# Altium footprint library agfa other components.PCBLIB: 27 footprints (part 1 of 2)
Each footprint in its own frame and in the unit in brackets; x right, y up, seen from the top. Pads: shape width x height; smd on the part's side, far side on the other; paste and mask are expansions set on the pad; w line width, h text height; cw(c..) or ccw(c..) is an arc to the next point about the centre after c.
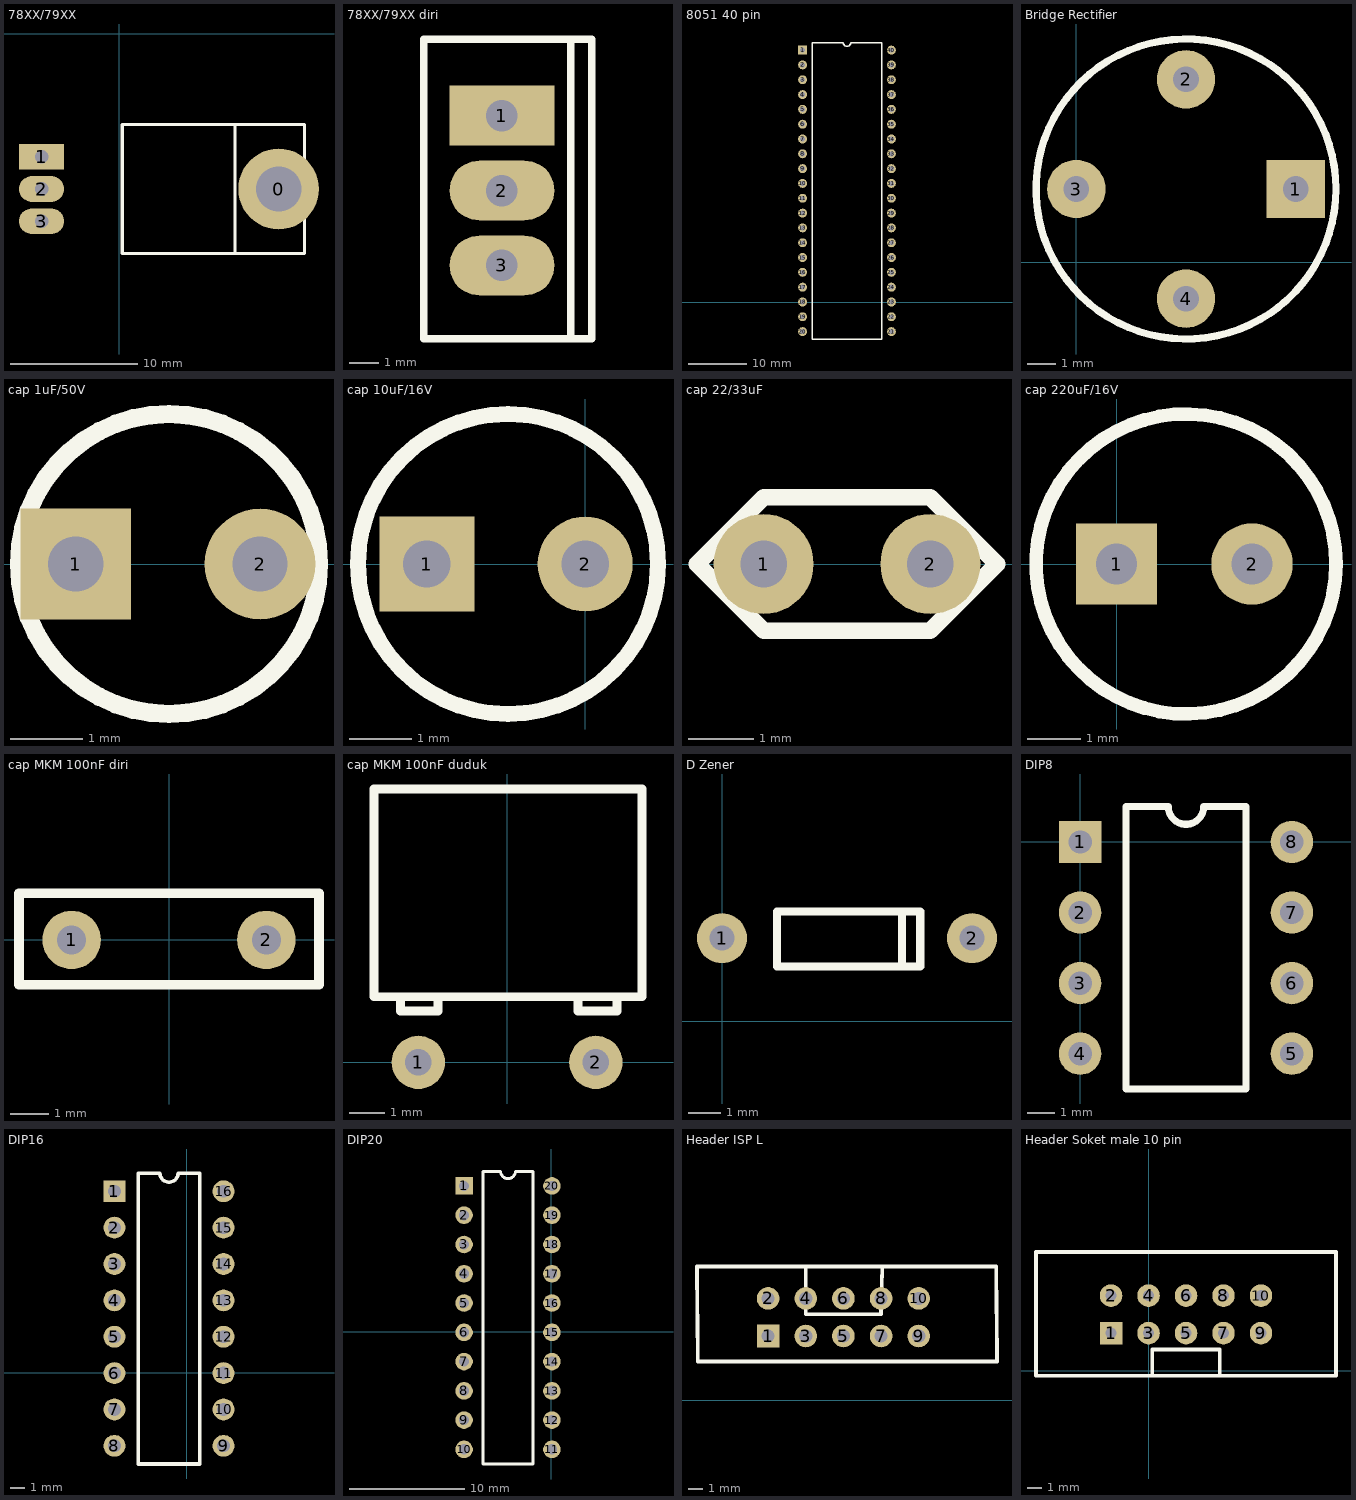
[diagram p0: the footprints below, top view; thin cyan lines are the x and y axes]

## 78XX/79XX [mil]
pads (4):
  round 250 hole 140: 0(495,-482)
  rect 140x80 hole 42: 1(-240,-382)
  oval 140x80 hole 42: 2(-240,-482) 3(-240,-582)
Top Overlay:
  lines w10: 360,-682 360,-282 ; 10,-682 10,-282 575,-282 575,-682 10,-682

## 78XX/79XX diri [mil]
pads (3):
  rect 140x80 hole 42: 1(-296,-302)
  oval 140x80 hole 42: 2(-296,-402) 3(-296,-502)
Top Overlay:
  lines w10: -204,-598 -204,-200 ; -400,-600 -400,-200 -176,-200 -176,-600 -400,-600

## 8051 40 pin [mil]
pads (40):
  rect 60x60 hole 33: 1(-1746,1702)
  round 60 hole 33: 2(-1746,1602) 3(-1746,1502) 4(-1746,1402) 5(-1746,1302) 6(-1746,1202) 7(-1746,1102) 8(-1746,1002) 9(-1746,902) 10(-1746,802) 11(-1746,702) 12(-1746,602) 13(-1746,502) 14(-1746,402) 15(-1746,302) 16(-1746,202) 17(-1746,102) 18(-1746,2) 19(-1746,-98) 20(-1746,-198) 21(-1146,-198) 22(-1146,-98) 23(-1146,2) 24(-1146,102) 25(-1146,202) 26(-1146,302) 27(-1146,402) 28(-1146,502) 29(-1146,602) 30(-1146,702) 31(-1146,802) 32(-1146,902) 33(-1146,1002) 34(-1146,1102) 35(-1146,1202) 36(-1146,1302) 37(-1146,1402) 38(-1146,1502) 39(-1146,1602) 40(-1146,1702)
Top Overlay:
  lines w10: -1681,-248 -1681,1752 -1471,1752 ccw(c-1446,1752) -1421,1752 -1211,1752 -1211,-248 -1681,-248

## Bridge Rectifier [mil]
pads (4):
  rect 80x80 hole 35: 1(300,100)
  round 80 hole 35: 2(150,250) 3(0,100) 4(150,-50)
Top Overlay:
  circle w10: c150,100 r205.25

## cap 1uF/50V [mil]
pads (2):
  rect 60x60 hole 30: 1(300,0)
  round 60 hole 30: 2(400,0)
Top Overlay:
  circle w10: c350.61,0 r81.39

## cap 10uF/16V [mil]
pads (2):
  rect 60x60 hole 30: 1(-100,0)
  round 60 hole 30: 2(0,0)
Top Overlay:
  circle w10: c-48.76,0 r94.76

## cap 22/33uF [mil]
pads (2):
  round 60 hole 28: 1(300,0) 2(400,0)
Top Overlay:
  lines w10: 260,0 300,40 400,40 440,0 400,-40 300,-40 260,0

## cap 220uF/16V [mil]
pads (2):
  rect 60x60 hole 30: 1(0,0)
  round 60 hole 30: 2(100,0)
Top Overlay:
  circle w10: c51.28,0 r110.72

## cap MKM 100nF diri [mil]
pads (2):
  round 60 hole 30: 1(-100,0) 2(100,0)
Top Overlay:
  lines w10: -154,-46 -154,48 154,48 154,-46 -154,-46

## cap MKM 100nF duduk [mil]
pads (2):
  round 60 hole 30: 1(-100,0) 2(100,0)
Top Overlay:
  lines w10: -120,74 -120,58 -78,58 -78,74 ; 80,74 80,58 124,58 124,74 ; -150,74 152,74 152,308 -150,308 -150,74

## D Zener [mil]
pads (2):
  round 60 hole 30: 1(0,100) 2(300,100)
Top Overlay:
  lines w10: 216,68 216,132 ; 66,66 238,66 238,132 66,132 66,66

## DIP8 [mil]
pads (8):
  rect 60x60 hole 33: 1(0,0)
  round 60 hole 33: 2(0,-100) 3(0,-200) 4(0,-300) 5(300,-300) 6(300,-200) 7(300,-100) 8(300,0)
Top Overlay:
  lines w10: 65,-350 65,50 125,50 ccw(c150,50) 175,50 235,50 235,-350 65,-350

## DIP16 [mil]
pads (16):
  rect 60x60 hole 35: 1(-199,499)
  round 60 hole 35: 2(-199,399) 3(-199,299) 4(-199,199) 5(-199,99) 6(-199,-1) 7(-199,-101) 8(-199,-201) 9(101,-201) 10(101,-101) 11(101,-1) 12(101,99) 13(101,199) 14(101,299) 15(101,399) 16(101,499)
Top Overlay:
  lines w10: -134,-251 36,-251 36,549 -24,549 cw(c-49,549) -74,549 -134,549 -134,-251

## DIP20 [mil]
pads (20):
  rect 60x60 hole 35: 1(-297,498)
  round 60 hole 35: 2(-297,398) 3(-297,298) 4(-297,198) 5(-297,98) 6(-297,-2) 7(-297,-102) 8(-297,-202) 9(-297,-302) 10(-297,-402) 11(3,-402) 12(3,-302) 13(3,-202) 14(3,-102) 15(3,-2) 16(3,98) 17(3,198) 18(3,298) 19(3,398) 20(3,498)
Top Overlay:
  lines w10: -232,-452 -62,-452 -62,548 -122,548 cw(c-147,548) -172,548 -232,548 -232,-452

## Header ISP L [mil]
pads (10):
  rect 60x60 hole 35: 1(592,171)
  round 60 hole 35: 2(592,271) 3(692,171) 4(692,271) 5(792,171) 6(792,271) 7(892,171) 8(892,271) 9(992,171) 10(992,271)
Top Overlay:
  lines w10: 692,356 692,229 892,229 895,356 ; 403,356 1198,356 1200,103 405,103 403,356

## Header Soket male 10 pin [mil]
pads (10):
  rect 60x60 hole 30: 1(-100,100)
  round 60 hole 30: 2(-100,200) 3(0,100) 4(0,200) 5(100,100) 6(100,200) 7(200,100) 8(200,200) 9(300,100) 10(300,200)
Top Overlay:
  lines w10: 10,-14 10,56 190,56 190,-14 ; -300,-14 -300,316 500,316 500,-14 -300,-14